# EAGLE library part FT4232H_MINI_MODULE (library ft4232H_mini_module)
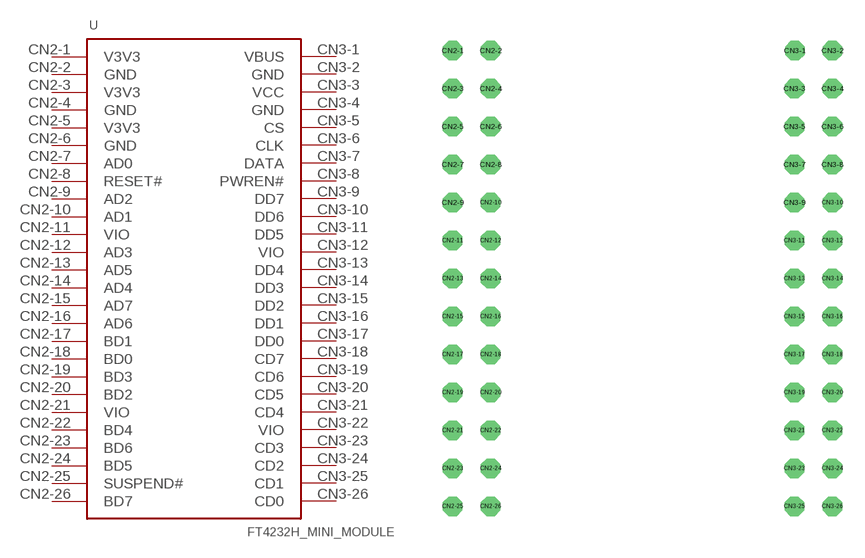
[diagram p0: symbol with the pads of PINHEAD; footprint PINHEAD]

Designator prefix -

## FT4232H_MINI_MODULE  [PINHEAD]
CN2-1  V3V3
CN2-2  GND
CN2-3  V3V3
CN2-4  GND
CN2-5  V3V3
CN2-6  GND
CN2-7  AD0
CN2-8  RESET#
CN2-9  AD2
CN2-10  AD1
CN2-11  VIO
CN2-12  AD3
CN2-13  AD5
CN2-14  AD4
CN2-15  AD7
CN2-16  AD6
CN2-17  BD1
CN2-18  BD0
CN2-19  BD3
CN2-20  BD2
CN2-21  VIO
CN2-22  BD4
CN2-23  BD6
CN2-24  BD5
CN2-25  SUSPEND#
CN2-26  BD7
CN3-1  VBUS
CN3-2  GND
CN3-3  VCC
CN3-4  GND
CN3-5  CS
CN3-6  CLK
CN3-7  DATA
CN3-8  PWREN#
CN3-9  DD7
CN3-10  DD6
CN3-11  DD5
CN3-12  VIO
CN3-13  DD4
CN3-14  DD3
CN3-15  DD2
CN3-16  DD1
CN3-17  DD0
CN3-18  CD7
CN3-19  CD6
CN3-20  CD5
CN3-21  CD4
CN3-22  VIO
CN3-23  CD3
CN3-24  CD2
CN3-25  CD1
CN3-26  CD0

## Footprint PINHEAD (pad centres in mm)
drill 0.8 octagon: CN2-1 -12.7,12.7; CN2-2 -10.16,12.7; CN2-3 -12.7,10.16; CN2-4 -10.16,10.16; CN2-5 -12.7,7.62; CN2-6 -10.16,7.62; CN2-7 -12.7,5.08; CN2-8 -10.16,5.08; CN2-9 -12.7,2.54; CN2-10 -10.16,2.54; CN2-11 -12.7,0; CN2-12 -10.16,0; CN2-13 -12.7,-2.54; CN2-14 -10.16,-2.54; CN2-15 -12.7,-5.08; CN2-16 -10.16,-5.08; CN2-17 -12.7,-7.62; CN2-18 -10.16,-7.62; CN2-19 -12.7,-10.16; CN2-20 -10.16,-10.16; CN2-21 -12.7,-12.7; CN2-22 -10.16,-12.7; CN2-23 -12.7,-15.24; CN2-24 -10.16,-15.24; CN2-25 -12.7,-17.78; CN2-26 -10.16,-17.78; CN3-1 10.19,12.7; CN3-2 12.7,12.7; CN3-3 10.16,10.16; CN3-4 12.7,10.16; CN3-5 10.16,7.62; CN3-6 12.7,7.62; CN3-7 10.16,5.08; CN3-8 12.7,5.08; CN3-9 10.16,2.54; CN3-10 12.7,2.54; CN3-11 10.16,0; CN3-12 12.7,0; CN3-13 10.16,-2.54; CN3-14 12.7,-2.54; CN3-15 10.16,-5.08; CN3-16 12.7,-5.08; CN3-17 10.16,-7.62; CN3-18 12.7,-7.62; CN3-19 10.16,-10.16; CN3-20 12.7,-10.16; CN3-21 10.16,-12.7; CN3-22 12.7,-12.7; CN3-23 10.16,-15.24; CN3-24 12.7,-15.24; CN3-25 10.16,-17.78; CN3-26 12.7,-17.78